# Altium integrated library Res-SMD_V2.IntLib: 2369 symbols (part 2 of 18)
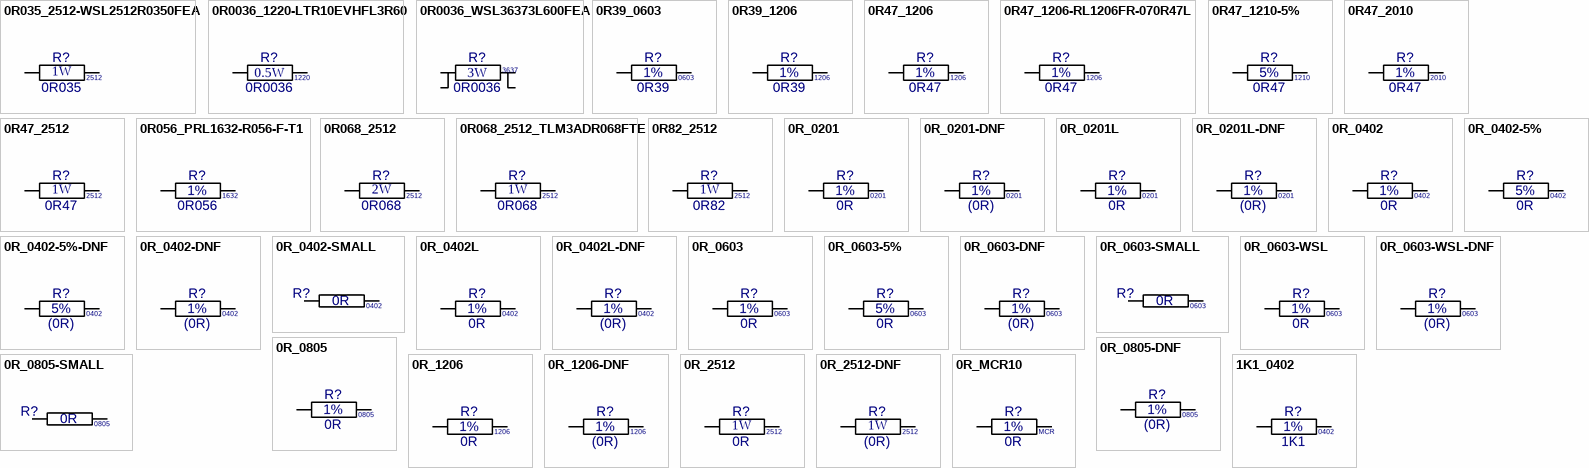
[diagram p60: symbols 0R035_2512-WSL2512R0350FEA to 1K1_0402]

## 0R82_2512
designator R?, comment value 0R82  Watt: 1W  Text1: 2512  (hidden comment: 0R82_R2512_1%)
Resistor Chip SMD; Manufacturer: Various; Part Number: 0R82 2512 1%; Tol: 1%; Package: RESC2512X71N; EDM-PN: *; Text2: *; Reutech PN: *; SAAB PN: *; DCE Part No: *
footprint RESC2512X71N (Chip Resistor, 2512, 2-Leads, Body 6.3x3.2mm, IPC Medium Density)
pins: 1, 2

## 0R_0201
designator R?, comment value 0R  Tol: 1%  Text1: 0201  (hidden comment: 0R_R0201_1%)
Resistor Chip SMD; Manufacturer: Various; Part Number: 0R 0201 1%; Watt: 31mW; Package: RESC0201X33N; EDM-PN: *; Text2: *; Reutech PN: *; SAAB PN: *; DCE Part No: *
footprint RESC0201X33N (Chip Resistor, 0201, 2-Leads, Body 0.6x0.3mm, IPC Medium Density)
pins: 1, 2

## 0R_0201-DNF
designator R?, comment value (0R)  Tol: 1%  Text1: 0201  (hidden comment: 0R_R0201_1%-DNF)
Resistor Chip SMD - Do not Fit; Manufacturer: Various; Part Number: DNF - 0R 0201 1%; Watt: 31mW; Package: RESC0201X33N; EDM-PN: *; Text2: *; Reutech PN: *; SAAB PN: *; DCE Part No: *
footprint RESC0201X33N (Chip Resistor, 0201, 2-Leads, Body 0.6x0.3mm, IPC Medium Density)
pins: 1, 2

## 0R_0201L
designator R?, comment value 0R  Tol: 1%  Text1: 0201  (hidden comment: 0R_R0201_1%)
Resistor Chip SMD; Manufacturer: Various; Part Number: 0R 0201 1%; Watt: 31mW; Package: RESC0201X33L; EDM-PN: *; Text2: *; Reutech PN: *; SAAB PN: *; DCE Part No: *
footprint RESC0201X33L (Chip Resistor, 0201, 2-Leads, Body 0.6x0.3mm, IPC Least Density)
pins: 1, 2

## 0R_0201L-DNF
designator R?, comment value (0R)  Tol: 1%  Text1: 0201  (hidden comment: 0R_R0201_1%-DNF)
Resistor Chip SMD - Do not Fit; Manufacturer: Various; Part Number: DNF - 0R 0201 1%; Watt: 31mW; Package: RESC0201X33L; EDM-PN: *; Text2: *; Reutech PN: *; SAAB PN: *; DCE Part No: *
footprint RESC0201X33L (Chip Resistor, 0201, 2-Leads, Body 0.6x0.3mm, IPC Least Density)
pins: 1, 2

## 0R_0402
designator R?, comment value 0R  Tol: 1%  Text1: 0402  (hidden comment: 0R_R0402_1%)
Resistor Chip SMD; Manufacturer: Various; Part Number: 0R 0402 1%; DCE Part No: 7174; Watt: 63mW; EDM-PN: RES649; Package: RESC0402X40N; Text2: *; Reutech PN: 5905-92-0000; SAAB PN: *
footprint RESC0402X40N (Chip Resistor, 0402, 2-Leads, Body 1.1x0.5mm, IPC Medium Density)
pins: 1, 2

## 0R_0402-5%
designator R?, comment value 0R  Tol: 5%  Text1: 0402  (hidden comment: 0R_R0402_5%)
Resistor Chip SMD; Manufacturer: Various; Part Number: 0R 0402 5%; Watt: 63mW; Package: RESC0402X40N; EDM-PN: *; Text2: *; Reutech PN: *; SAAB PN: *; DCE Part No: *
footprint RESC0402X40N (Chip Resistor, 0402, 2-Leads, Body 1.1x0.5mm, IPC Medium Density)
pins: 1, 2

## 0R_0402-5%-DNF
designator R?, comment value (0R)  Tol: 5%  Text1: 0402  (hidden comment: 0R_R0402_5%)
Resistor Chip SMD - Do not Fit; Manufacturer: Various; Part Number: DNF - 0R 0402 5%; Watt: 63mW; Package: RESC0402X40N; EDM-PN: *; Text2: *; Reutech PN: *; SAAB PN: *; DCE Part No: *
footprint RESC0402X40N (Chip Resistor, 0402, 2-Leads, Body 1.1x0.5mm, IPC Medium Density)
pins: 1, 2

## 0R_0402-DNF
designator R?, comment value (0R)  Tol: 1%  Text1: 0402  (hidden comment: 0R_R0402_1%)
Resistor Chip SMD - Do not Fit; Manufacturer: Various; Part Number: DNF - 0R 0402 1%; Watt: 63mW; EDM-PN: RES649; Package: RESC0402X40N; Text2: *; Reutech PN: 5905-92-0000; SAAB PN: *; DCE Part No: *
footprint RESC0402X40N (Chip Resistor, 0402, 2-Leads, Body 1.1x0.5mm, IPC Medium Density)
pins: 1, 2

## 0R_0402-SMALL
designator R?, comment value 0R  Text1: 0402  (hidden comment: 0R_R0402_1%)
Resistor Chip SMD; Manufacturer: Various; Part Number: 0R 0402 1%; Watt: 63mW; EDM-PN: RES649; Tol: 1%; Package: RESC0402X40N; Text2: *; Reutech PN: 5905-92-0000; SAAB PN: *; DCE Part No: *
footprint RESC0402X40N (Chip Resistor, 0402, 2-Leads, Body 1.1x0.5mm, IPC Medium Density)
pins: 1, 2

## 0R_0402L
designator R?, comment value 0R  Tol: 1%  Text1: 0402  (hidden comment: 0R_R0402_1%)
Resistor Chip SMD; Manufacturer: Various; Part Number: 0R 0402 1%; DCE Part No: 7174; Watt: 63mW; EDM-PN: RES649; Package: RESC0402X40L; Text2: *; Reutech PN: 5905-92-0000; SAAB PN: *
footprint RESC0402X40L (Chip Resistor, 0402, 2-Leads, Body 1.1x0.5mm, IPC High Density)
pins: 1, 2

## 0R_0402L-DNF
designator R?, comment value (0R)  Tol: 1%  Text1: 0402  (hidden comment: 0R_R0402_1%)
Resistor Chip SMD - Do not Fit; Manufacturer: Various; Part Number: DNF - 0R 0402 1%; Watt: 63mW; EDM-PN: RES649; Package: RESC0402X40L; Text2: *; Reutech PN: 5905-92-0000; SAAB PN: *; DCE Part No: *
footprint RESC0402X40L (Chip Resistor, 0402, 2-Leads, Body 1.1x0.5mm, IPC High Density)
pins: 1, 2

## 0R_0603
designator R?, comment value 0R  Tol: 1%  Text1: 0603  (hidden comment: 0R_R0603_1%)
Resistor Chip SMD; Manufacturer: Various; Part Number: 0R 0603 1%; Watt: 100mW; EDM-PN: RES117; Package: RESC0603X60N; Text2: *; Reutech PN: 5905-93-0001; SAAB PN: *; DCE Part No: *
footprint RESC0603X60N (Chip Resistor, 0603, 2-Leads, Body 1.6x0.8mm, IPC Medium Density)
pins: 1, 2

## 0R_0603-5%
designator R?, comment value 0R  Tol: 5%  Text1: 0603  (hidden comment: 0R_R0603_5%)
Resistor Chip SMD; Manufacturer: Various; Part Number: 0R 0603 5%; Watt: 100mW; Package: RESC0603X60N; EDM-PN: *; Text2: *; Reutech PN: 5905-93-0000; SAAB PN: *; DCE Part No: *
footprint RESC0603X60N (Chip Resistor, 0603, 2-Leads, Body 1.6x0.8mm, IPC Medium Density)
pins: 1, 2

## 0R_0603-DNF
designator R?, comment value (0R)  Tol: 1%  Text1: 0603  (hidden comment: 0R_R0603_1%)
Resistor Chip SMD - Do not Fit; Manufacturer: Various; Part Number: DNF - 0R 0603 1%; Watt: 100mW; Package: RESC0603X60N; EDM-PN: *; Text2: *; Reutech PN: 5905-93-0001; SAAB PN: *; DCE Part No: *
footprint RESC0603X60N (Chip Resistor, 0603, 2-Leads, Body 1.6x0.8mm, IPC Medium Density)
pins: 1, 2

## 0R_0603-SMALL
designator R?, comment value 0R  Text1: 0603  (hidden comment: 0R_R0603_1%)
Resistor Chip SMD; Manufacturer: Various; Part Number: 0R 0603 1%; Watt: 100mW; EDM-PN: R117; Tol: 1%; Package: RESC0603X60N; Text2: *; Reutech PN: *; SAAB PN: *; DCE Part No: *
footprint RESC0603X60N (Chip Resistor, 0603, 2-Leads, Body 1.6x0.8mm, IPC Medium Density)
pins: 1, 2

## 0R_0603-WSL
designator R?, comment value 0R  Tol: 1%  Text1: 0603  (hidden comment: WSL060300000ZEA9)
Resistor High Current Jumper; Manufacturer: Vishay; Watt: 100mW; SAAB PN: 1ACF01533AEA; Part Number: WSL060300000ZEA9; Package: RES-WSL0603; EDM-PN: *; Text2: *; Reutech PN: *; DCE Part No: *
footprint RES-WSL0603 (Resistor, WSL0603, 2-Leads, Body 1.6x0.8mm, IPC Medium Density)
pins: 1, 2

## 0R_0603-WSL-DNF
designator R?, comment value (0R)  Tol: 1%  Text1: 0603  (hidden comment: WSL060300000ZEA9)
Resistor High Current Jumper - Do not Fit; Manufacturer: Vishay; Part Number: DNF - WSL060300000ZEA9; Watt: 100mW; SAAB PN: 1ACF01533AEA; Package: RES-WSL0603; EDM-PN: *; Text2: *; Reutech PN: *; DCE Part No: *
footprint RES-WSL0603 (Resistor, WSL0603, 2-Leads, Body 1.6x0.8mm, IPC Medium Density)
pins: 1, 2

## 0R_0805
designator R?, comment value 0R  Tol: 1%  Text1: 0805  (hidden comment: 0R_R0805_1%)
Resistor Chip SMD; Manufacturer: Various; Part Number: 0R 0805 1%; Watt: 125mW; EDM-PN: RES58; SAAB PN: 1ACF00709AEA; Package: RESC0805X65N; Text2: *; Reutech PN: 5905-98-0000; DCE Part No: *
footprint RESC0805X65N (Chip Resistor, 0805, 2-Leads, Body 2.0x1.3mm, IPC Medium Density)
pins: 1, 2

## 0R_0805-DNF
designator R?, comment value (0R)  Tol: 1%  Text1: 0805  (hidden comment: 0R_R0805_1%-DNF)
Resistor Chip SMD - Do not Fit; Manufacturer: Various; Part Number: DNF - 0R 0805 1%; Watt: 125mW; EDM-PN: RES58; SAAB PN: 1ACF00709AEA; Package: RESC0805X65N; Text2: *; Reutech PN: *; DCE Part No: *
footprint RESC0805X65N (Chip Resistor, 0805, 2-Leads, Body 2.0x1.3mm, IPC Medium Density)
pins: 1, 2

## 0R_0805-SMALL
designator R?, comment value 0R  Text1: 0805  (hidden comment: 0R_R0805_1%)
Resistor Chip SMD; Manufacturer: Various; Part Number: 0R 0805 1%; Watt: 125mW; Tol: 1%; Package: RESC0805X65N; EDM-PN: *; Text2: *; Reutech PN: *; SAAB PN: *; DCE Part No: *
footprint RESC0805X65N (Chip Resistor, 0805, 2-Leads, Body 2.0x1.3mm, IPC Medium Density)
pins: 1, 2

## 0R_1206
designator R?, comment value 0R  Tol: 1%  Text1: 1206  (hidden comment: 0R_R1206_1%)
Resistor Chip SMD; Manufacturer: Various; Part Number: 0R 1206 1%; Watt: 250mW; EDM-PN: RES537; Package: RESC1206X71N; Text2: *; Reutech PN: 5905-97-0000; SAAB PN: *; DCE Part No: *
footprint RESC1206X71N (Chip Resistor, 1206, 2-Leads, Body 3.2x1.6mm, IPC Medium Density)
pins: 1, 2

## 0R_1206-DNF
designator R?, comment value (0R)  Tol: 1%  Text1: 1206  (hidden comment: 0R_R1206_1%-DNF)
Resistor Chip SMD - Do not Fit; Manufacturer: Various; Part Number: DNF - 0R 1206 1%; Watt: 250mW; EDM-PN: RES537; Package: RESC1206X71N; Text2: *; Reutech PN: 5905-97-0000; SAAB PN: *; DCE Part No: *
footprint RESC1206X71N (Chip Resistor, 1206, 2-Leads, Body 3.2x1.6mm, IPC Medium Density)
pins: 1, 2

## 0R_2512
designator R?, comment value 0R  Watt: 1W  Text1: 2512  (hidden comment: 0R_R2512_1%)
Resistor Chip SMD; Manufacturer: Various; Part Number: 0R 2512 1%; Tol: 1%; Package: RESC2512X71N; EDM-PN: *; Text2: *; Reutech PN: *; SAAB PN: *; DCE Part No: *
footprint RESC2512X71N (Chip Resistor, 2512, 2-Leads, Body 6.3x3.2mm, IPC Medium Density)
pins: 1, 2

## 0R_2512-DNF
designator R?, comment value (0R)  Watt: 1W  Text1: 2512  (hidden comment: 0R_R2512_1%-DNF)
Resistor Chip SMD - Do not Fit; Manufacturer: Various; Part Number: DNF - 0R 2512 1%; Tol: 1%; Package: RESC2512X71N; EDM-PN: *; Text2: *; Reutech PN: *; SAAB PN: *; DCE Part No: *
footprint RESC2512X71N (Chip Resistor, 2512, 2-Leads, Body 6.3x3.2mm, IPC Medium Density)
pins: 1, 2

## 0R_MCR10
designator R?, comment value 0R  Tol: 1%  Text1: MCR  (hidden comment: 0R_MCR10_1%)
Resistor Compact Thick Film Chip; Manufacturer: Rohm; Part Number: MCR10EZPJ000; Watt: 125mW; Package: RES-MCR10; EDM-PN: *; Text2: *; Reutech PN: *; SAAB PN: *; DCE Part No: *
footprint RES-MCR10 (MCR10 2.0x1.25mm)
pins: 1, 2

## 1K1_0402
designator R?, comment value 1K1  Tol: 1%  Text1: 0402  (hidden comment: 1K1_R0402_1%)
Resistor Chip SMD; Manufacturer: Various; Part Number: 1K1 0402 1%; Watt: 63mW; Package: RESC0402X40N; EDM-PN: *; Text2: *; Reutech PN: *; SAAB PN: *; DCE Part No: *
footprint RESC0402X40N (Chip Resistor, 0402, 2-Leads, Body 1.1x0.5mm, IPC Medium Density)
pins: 1, 2

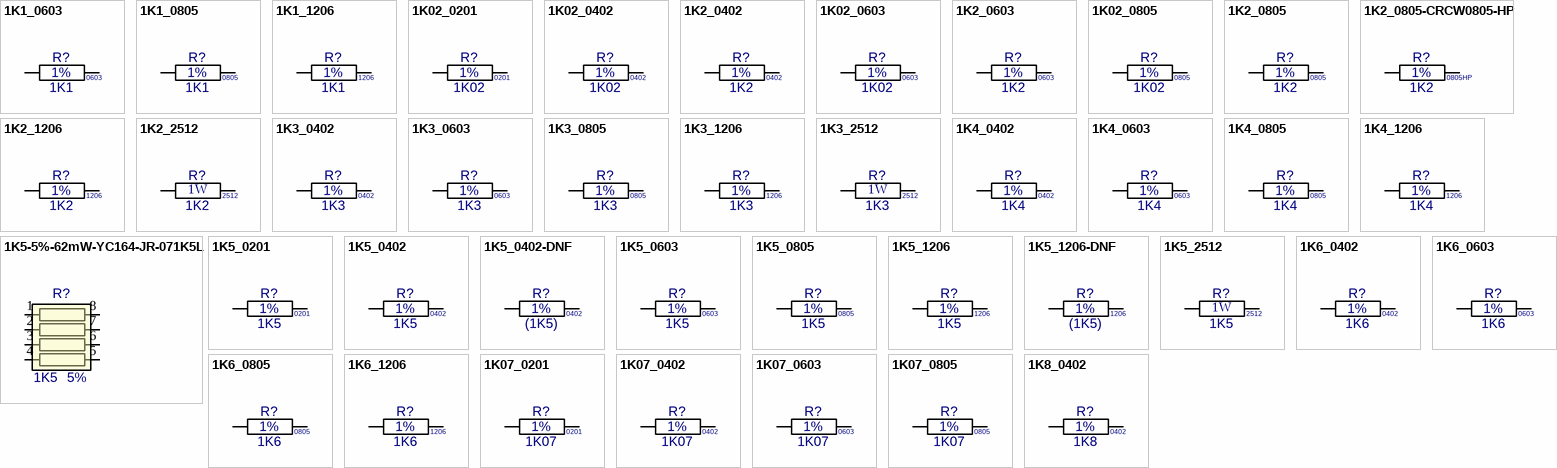
[diagram p4: symbols 1K1_0603 to 1K8_0402]

## 1K1_0603
designator R?, comment value 1K1  Tol: 1%  Text1: 0603  (hidden comment: 1K1_R0603_1%)
Resistor Chip SMD; Manufacturer: Various; Part Number: 1K1 0603 1%; Watt: 100mW; EDM-PN: RES492; Package: RESC0603X60N; Text2: *; Reutech PN: 5905-93-1101; SAAB PN: *; DCE Part No: *
footprint RESC0603X60N (Chip Resistor, 0603, 2-Leads, Body 1.6x0.8mm, IPC Medium Density)
pins: 1, 2

## 1K1_0805
designator R?, comment value 1K1  Tol: 1%  Text1: 0805  (hidden comment: 1K1_R0805_1%)
Resistor Chip SMD; Manufacturer: Various; Part Number: 1K1 0805 1%; Watt: 125mW; Package: RESC0805X65N; EDM-PN: *; Text2: *; Reutech PN: *; SAAB PN: *; DCE Part No: *
footprint RESC0805X65N (Chip Resistor, 0805, 2-Leads, Body 2.0x1.3mm, IPC Medium Density)
pins: 1, 2

## 1K1_1206
designator R?, comment value 1K1  Tol: 1%  Text1: 1206  (hidden comment: 1K1_R1206_1%)
Resistor Chip SMD; Manufacturer: Various; Part Number: 1K1 1206 1%; Watt: 250mW; Package: RESC1206X71N; EDM-PN: *; Text2: *; Reutech PN: 5905-93-1101; SAAB PN: *; DCE Part No: *
footprint RESC1206X71N (Chip Resistor, 1206, 2-Leads, Body 3.2x1.6mm, IPC Medium Density)
pins: 1, 2

## 1K02_0201
designator R?, comment value 1K02  Tol: 1%  Text1: 0201  (hidden comment: 1K02_R0201_1%)
Resistor Chip SMD; Manufacturer: Various; Part Number: 1K02 0201 1%; Watt: 31mW; Package: RESC0201X33N; EDM-PN: *; Text2: *; Reutech PN: *; SAAB PN: *; DCE Part No: *
footprint RESC0201X33N (Chip Resistor, 0201, 2-Leads, Body 0.6x0.3mm, IPC Medium Density)
pins: 1, 2

## 1K02_0402
designator R?, comment value 1K02  Tol: 1%  Text1: 0402  (hidden comment: 1K02_R0402_1%)
Resistor Chip SMD; Manufacturer: Various; Part Number: 1K02 0402 1%; Watt: 63mW; Package: RESC0402X40N; EDM-PN: *; Text2: *; Reutech PN: *; SAAB PN: *; DCE Part No: *
footprint RESC0402X40N (Chip Resistor, 0402, 2-Leads, Body 1.1x0.5mm, IPC Medium Density)
pins: 1, 2

## 1K2_0402
designator R?, comment value 1K2  Tol: 1%  Text1: 0402  (hidden comment: 1K2_R0402_1%)
Resistor Chip SMD; Manufacturer: Various; Part Number: 1K2 0402 1%; Watt: 63mW; Package: RESC0402X40N; EDM-PN: *; Text2: *; Reutech PN: *; SAAB PN: *; DCE Part No: *
footprint RESC0402X40N (Chip Resistor, 0402, 2-Leads, Body 1.1x0.5mm, IPC Medium Density)
pins: 1, 2

## 1K02_0603
designator R?, comment value 1K02  Tol: 1%  Text1: 0603  (hidden comment: 1K02_R0603_1%)
Resistor Chip SMD; Manufacturer: Various; Part Number: 1K02 0603 1%; Watt: 100mW; Package: RESC0603X60N; EDM-PN: *; Text2: *; Reutech PN: *; SAAB PN: *; DCE Part No: *
footprint RESC0603X60N (Chip Resistor, 0603, 2-Leads, Body 1.6x0.8mm, IPC Medium Density)
pins: 1, 2

## 1K2_0603
designator R?, comment value 1K2  Tol: 1%  Text1: 0603  (hidden comment: 1K2_R0603_1%)
Resistor Chip SMD; Manufacturer: Various; Part Number: 1K2 0603 1%; Watt: 100mW; EDM-PN: RES228; Package: RESC0603X60N; Text2: *; Reutech PN: 5905-93-1201; SAAB PN: *; DCE Part No: *
footprint RESC0603X60N (Chip Resistor, 0603, 2-Leads, Body 1.6x0.8mm, IPC Medium Density)
pins: 1, 2

## 1K02_0805
designator R?, comment value 1K02  Tol: 1%  Text1: 0805  (hidden comment: 1K02_R0805_1%)
Resistor Chip SMD; Manufacturer: Various; Part Number: 1K02 0805 1%; Watt: 125mW; Package: RESC0805X65N; EDM-PN: *; Text2: *; Reutech PN: *; SAAB PN: *; DCE Part No: *
footprint RESC0805X65N (Chip Resistor, 0805, 2-Leads, Body 2.0x1.3mm, IPC Medium Density)
pins: 1, 2

## 1K2_0805
designator R?, comment value 1K2  Tol: 1%  Text1: 0805  (hidden comment: 1K2_R0805_1%)
Resistor Chip SMD; Manufacturer: Various; Part Number: 1K2 0805 1%; Watt: 125mW; Package: RESC0805X65N; EDM-PN: *; Text2: *; Reutech PN: *; SAAB PN: *; DCE Part No: *
footprint RESC0805X65N (Chip Resistor, 0805, 2-Leads, Body 2.0x1.3mm, IPC Medium Density)
pins: 1, 2

## 1K2_0805-CRCW0805-HP
designator R?, comment value 1K2  Tol: 1%  Text1: 0805HP  (hidden comment: CRCW08051K20FKEAHP)
Resistor Pulse Withstanding Thick Film; Manufacturer: Vishay; Watt: 500mW; Part Number: CRCW08051K20FKEAHP; Package: CRCW0805-HP; EDM-PN: *; Text2: *; Reutech PN: *; SAAB PN: *; DCE Part No: *
footprint CRCW0805-HP (CRCW0805 HP 2.0x1.3mm, IPC Medium Density)
pins: 1, 2

## 1K2_1206
designator R?, comment value 1K2  Tol: 1%  Text1: 1206  (hidden comment: 1K2_R1206_1%)
Resistor Chip SMD; Manufacturer: Various; Part Number: 1K2 1206 1%; Watt: 250mW; Package: RESC1206X71N; EDM-PN: *; Text2: *; Reutech PN: *; SAAB PN: *; DCE Part No: *
footprint RESC1206X71N (Chip Resistor, 1206, 2-Leads, Body 3.2x1.6mm, IPC Medium Density)
pins: 1, 2

## 1K2_2512
designator R?, comment value 1K2  Watt: 1W  Text1: 2512  (hidden comment: 1K2_R2512_1%)
Resistor Chip SMD; Manufacturer: Various; Part Number: 1K2 2512 1%; Tol: 1%; Package: RESC2512X71N; EDM-PN: *; Text2: *; Reutech PN: *; SAAB PN: *; DCE Part No: *
footprint RESC2512X71N (Chip Resistor, 2512, 2-Leads, Body 6.3x3.2mm, IPC Medium Density)
pins: 1, 2

## 1K3_0402
designator R?, comment value 1K3  Tol: 1%  Text1: 0402  (hidden comment: 1K3_R0402_1%)
Resistor Chip SMD; Manufacturer: Various; Part Number: 1K3 0402 1%; Watt: 63mW; Package: RESC0402X40N; EDM-PN: *; Text2: *; Reutech PN: *; SAAB PN: *; DCE Part No: *
footprint RESC0402X40N (Chip Resistor, 0402, 2-Leads, Body 1.1x0.5mm, IPC Medium Density)
pins: 1, 2

## 1K3_0603
designator R?, comment value 1K3  Tol: 1%  Text1: 0603  (hidden comment: 1K3_R0603_1%)
Resistor Chip SMD; Manufacturer: Various; Part Number: 1K3 0603 1%; Watt: 100mW; Package: RESC0603X60N; EDM-PN: *; Text2: *; Reutech PN: *; SAAB PN: *; DCE Part No: *
footprint RESC0603X60N (Chip Resistor, 0603, 2-Leads, Body 1.6x0.8mm, IPC Medium Density)
pins: 1, 2

## 1K3_0805
designator R?, comment value 1K3  Tol: 1%  Text1: 0805  (hidden comment: 1K3_R0805_1%)
Resistor Chip SMD; Manufacturer: Various; Part Number: 1K3 0805 1%; Watt: 125mW; Package: RESC0805X65N; EDM-PN: *; Text2: *; Reutech PN: *; SAAB PN: *; DCE Part No: *
footprint RESC0805X65N (Chip Resistor, 0805, 2-Leads, Body 2.0x1.3mm, IPC Medium Density)
pins: 1, 2

## 1K3_1206
designator R?, comment value 1K3  Tol: 1%  Text1: 1206  (hidden comment: 1K3_R1206_1%)
Resistor Chip SMD; Manufacturer: Various; Part Number: 1K3 1206 1%; Watt: 250mW; Package: RESC1206X71N; EDM-PN: *; Text2: *; Reutech PN: *; SAAB PN: *; DCE Part No: *
footprint RESC1206X71N (Chip Resistor, 1206, 2-Leads, Body 3.2x1.6mm, IPC Medium Density)
pins: 1, 2

## 1K3_2512
designator R?, comment value 1K3  Watt: 1W  Text1: 2512  (hidden comment: 1K3_R2512_1%)
Resistor Chip SMD; Manufacturer: Various; Part Number: 1K3 2512 1%; Tol: 1%; Package: RESC2512X71N; EDM-PN: *; Text2: *; Reutech PN: *; SAAB PN: *; DCE Part No: *
footprint RESC2512X71N (Chip Resistor, 2512, 2-Leads, Body 6.3x3.2mm, IPC Medium Density)
pins: 1, 2

## 1K4_0402
designator R?, comment value 1K4  Tol: 1%  Text1: 0402  (hidden comment: 1K4_R0402_1%)
Resistor Chip SMD; Manufacturer: Various; Part Number: 1K4 0402 1%; Watt: 63mW; Package: RESC0402X40N; EDM-PN: *; Text2: *; Reutech PN: *; SAAB PN: *; DCE Part No: *
footprint RESC0402X40N (Chip Resistor, 0402, 2-Leads, Body 1.1x0.5mm, IPC Medium Density)
pins: 1, 2

## 1K4_0603
designator R?, comment value 1K4  Tol: 1%  Text1: 0603  (hidden comment: 1K4_R0603_1%)
Resistor Chip SMD; Manufacturer: Various; Part Number: 1K4 0603 1%; Watt: 100mW; Package: RESC0603X60N; EDM-PN: *; Text2: *; Reutech PN: *; SAAB PN: *; DCE Part No: *
footprint RESC0603X60N (Chip Resistor, 0603, 2-Leads, Body 1.6x0.8mm, IPC Medium Density)
pins: 1, 2

## 1K4_0805
designator R?, comment value 1K4  Tol: 1%  Text1: 0805  (hidden comment: 1K4_R0805_1%)
Resistor Chip SMD; Manufacturer: Various; Part Number: 1K4 0805 1%; Watt: 125mW; Package: RESC0805X65N; EDM-PN: *; Text2: *; Reutech PN: *; SAAB PN: *; DCE Part No: *
footprint RESC0805X65N (Chip Resistor, 0805, 2-Leads, Body 2.0x1.3mm, IPC Medium Density)
pins: 1, 2

## 1K4_1206
designator R?, comment value 1K4  Tol: 1%  Text1: 1206  (hidden comment: 1K4_R1206_1%)
Resistor Chip SMD; Manufacturer: Various; Part Number: 1K4 1206 1%; Watt: 250mW; Package: RESC1206X71N; EDM-PN: *; Text2: *; Reutech PN: *; SAAB PN: *; DCE Part No: *
footprint RESC1206X71N (Chip Resistor, 1206, 2-Leads, Body 3.2x1.6mm, IPC Medium Density)
pins: 1, 2

## 1K5-5%-62mW-YC164-JR-071K5L
designator R?, comment value 1K5  Tol: 5%  (hidden comment: YC164-JR-071K5L)
Resistor Chip Array; Manufacturer: Yageo; Watt: 62mW; Part Number: YC164-JR-071K5L; Package: YC164; EDM-PN: *; Text2: *; Text1: *; Reutech PN: *; SAAB PN: *; DCE Part No: *
footprint YC164 (Res Network 1.6x3.2mm)
pins: 1, 2, 3, 4, 5, 6, 7, 8

## 1K5_0201
designator R?, comment value 1K5  Tol: 1%  Text1: 0201  (hidden comment: 1K5_R0201_1%)
Resistor Chip SMD; Manufacturer: Various; Part Number: 1K5 0201 1%; Watt: 31mW; Package: RESC0201X33N; EDM-PN: *; Text2: *; Reutech PN: *; SAAB PN: *; DCE Part No: *
footprint RESC0201X33N (Chip Resistor, 0201, 2-Leads, Body 0.6x0.3mm, IPC Medium Density)
pins: 1, 2

## 1K5_0402
designator R?, comment value 1K5  Tol: 1%  Text1: 0402  (hidden comment: 1K5_R0402_1%)
Resistor Chip SMD; Manufacturer: Various; Part Number: 1K5 0402 1%; Watt: 63mW; EDM-PN: RES885; Package: RESC0402X40N; Text2: *; Reutech PN: 5905-92-1501; SAAB PN: *; DCE Part No: *
footprint RESC0402X40N (Chip Resistor, 0402, 2-Leads, Body 1.1x0.5mm, IPC Medium Density)
pins: 1, 2

## 1K5_0402-DNF
designator R?, comment value (1K5)  Tol: 1%  Text1: 0402  (hidden comment: 1K5_R0402_1%-DNF)
Resistor Chip SMD - Do not Fit; Manufacturer: Various; Part Number: DNF - 1K5 0402 1%; Watt: 63mW; Package: RESC0402X40N; EDM-PN: *; Text2: *; Reutech PN: *; SAAB PN: *; DCE Part No: *
footprint RESC0402X40N (Chip Resistor, 0402, 2-Leads, Body 1.1x0.5mm, IPC Medium Density)
pins: 1, 2

## 1K5_0603
designator R?, comment value 1K5  Tol: 1%  Text1: 0603  (hidden comment: 1K5_R0603_1%)
Resistor Chip SMD; Manufacturer: Various; Part Number: 1K5 0603 1%; Watt: 100mW; EDM-PN: RES229; Package: RESC0603X60N; Text2: *; Reutech PN: 5905-93-1501; SAAB PN: *; DCE Part No: *
footprint RESC0603X60N (Chip Resistor, 0603, 2-Leads, Body 1.6x0.8mm, IPC Medium Density)
pins: 1, 2

## 1K5_0805
designator R?, comment value 1K5  Tol: 1%  Text1: 0805  (hidden comment: 1K5_R0805_1%)
Resistor Chip SMD; Manufacturer: Various; Part Number: 1K5 0805 1%; Watt: 125mW; EDM-PN: RES13; SAAB PN: 1ACF00190AEA; Package: RESC0805X65N; Text2: *; Reutech PN: *; DCE Part No: *
footprint RESC0805X65N (Chip Resistor, 0805, 2-Leads, Body 2.0x1.3mm, IPC Medium Density)
pins: 1, 2

## 1K5_1206
designator R?, comment value 1K5  Tol: 1%  Text1: 1206  (hidden comment: 1K5_R1206_1%)
Resistor Chip SMD; Manufacturer: Various; Part Number: 1K5 1206 1%; Watt: 250mW; Package: RESC1206X71N; EDM-PN: *; Text2: *; Reutech PN: 5905-97-5101; SAAB PN: *; DCE Part No: *
footprint RESC1206X71N (Chip Resistor, 1206, 2-Leads, Body 3.2x1.6mm, IPC Medium Density)
pins: 1, 2

## 1K5_1206-DNF
designator R?, comment value (1K5)  Tol: 1%  Text1: 1206  (hidden comment: 1K5_R1206_1%-DNF)
Resistor Chip SMD - Do not Fit; Manufacturer: Various; Part Number: DNF - 1K5 1206 1%; Watt: 250mW; Package: RESC1206X71N; EDM-PN: *; Text2: *; Reutech PN: 5905-97-5101; SAAB PN: *; DCE Part No: *
footprint RESC1206X71N (Chip Resistor, 1206, 2-Leads, Body 3.2x1.6mm, IPC Medium Density)
pins: 1, 2

## 1K5_2512
designator R?, comment value 1K5  Watt: 1W  Text1: 2512  (hidden comment: 1K5_R2512_1%)
Resistor Chip SMD; Manufacturer: Various; Part Number: 1K5 2512 1%; Tol: 1%; Package: RESC2512X71N; EDM-PN: *; Text2: *; Reutech PN: *; SAAB PN: *; DCE Part No: *
footprint RESC2512X71N (Chip Resistor, 2512, 2-Leads, Body 6.3x3.2mm, IPC Medium Density)
pins: 1, 2

## 1K6_0402
designator R?, comment value 1K6  Tol: 1%  Text1: 0402  (hidden comment: 1K6_R0402_1%)
Resistor Chip SMD; Manufacturer: Various; Part Number: 1K6 0402 1%; Watt: 63mW; Package: RESC0402X40N; EDM-PN: *; Text2: *; Reutech PN: *; SAAB PN: *; DCE Part No: *
footprint RESC0402X40N (Chip Resistor, 0402, 2-Leads, Body 1.1x0.5mm, IPC Medium Density)
pins: 1, 2

## 1K6_0603
designator R?, comment value 1K6  Tol: 1%  Text1: 0603  (hidden comment: 1K6_R0603_1%)
Resistor Chip SMD; Manufacturer: Various; Part Number: 1K6 0603 1%; Watt: 100mW; Package: RESC0603X60N; EDM-PN: *; Text2: *; Reutech PN: *; SAAB PN: *; DCE Part No: *
footprint RESC0603X60N (Chip Resistor, 0603, 2-Leads, Body 1.6x0.8mm, IPC Medium Density)
pins: 1, 2

## 1K6_0805
designator R?, comment value 1K6  Tol: 1%  Text1: 0805  (hidden comment: 1K6_R0805_1%)
Resistor Chip SMD; Manufacturer: Various; Part Number: 1K6 0805 1%; Watt: 125mW; Package: RESC0805X65N; EDM-PN: *; Text2: *; Reutech PN: *; SAAB PN: *; DCE Part No: *
footprint RESC0805X65N (Chip Resistor, 0805, 2-Leads, Body 2.0x1.3mm, IPC Medium Density)
pins: 1, 2

## 1K6_1206
designator R?, comment value 1K6  Tol: 1%  Text1: 1206  (hidden comment: 1K6_R1206_1%)
Resistor Chip SMD; Manufacturer: Various; Part Number: 1K6 1206 1%; Watt: 250mW; Package: RESC1206X71N; EDM-PN: *; Text2: *; Reutech PN: *; SAAB PN: *; DCE Part No: *
footprint RESC1206X71N (Chip Resistor, 1206, 2-Leads, Body 3.2x1.6mm, IPC Medium Density)
pins: 1, 2

## 1K07_0201
designator R?, comment value 1K07  Tol: 1%  Text1: 0201  (hidden comment: 1K07_R0201_1%)
Resistor Chip SMD; Manufacturer: Various; Part Number: 1K07 0201 1%; Watt: 31mW; Package: RESC0201X33N; EDM-PN: *; Text2: *; Reutech PN: *; SAAB PN: *; DCE Part No: *
footprint RESC0201X33N (Chip Resistor, 0201, 2-Leads, Body 0.6x0.3mm, IPC Medium Density)
pins: 1, 2

## 1K07_0402
designator R?, comment value 1K07  Tol: 1%  Text1: 0402  (hidden comment: 1K07_R0402_1%)
Resistor Chip SMD; Manufacturer: Various; Part Number: 1K07 0402 1%; Watt: 63mW; Package: RESC0402X40N; EDM-PN: *; Text2: *; Reutech PN: *; SAAB PN: *; DCE Part No: *
footprint RESC0402X40N (Chip Resistor, 0402, 2-Leads, Body 1.1x0.5mm, IPC Medium Density)
pins: 1, 2

## 1K07_0603
designator R?, comment value 1K07  Tol: 1%  Text1: 0603  (hidden comment: 1K07_R0603_1%)
Resistor Chip SMD; Manufacturer: Various; Part Number: 1K07 0603 1%; Watt: 100mW; Package: RESC0603X60N; EDM-PN: *; Text2: *; Reutech PN: *; SAAB PN: *; DCE Part No: *
footprint RESC0603X60N (Chip Resistor, 0603, 2-Leads, Body 1.6x0.8mm, IPC Medium Density)
pins: 1, 2

## 1K07_0805
designator R?, comment value 1K07  Tol: 1%  Text1: 0805  (hidden comment: 1K07_R0805_1%)
Resistor Chip SMD; Manufacturer: Various; Part Number: 1K07 0805 1%; Watt: 125mW; Package: RESC0805X65N; EDM-PN: *; Text2: *; Reutech PN: *; SAAB PN: *; DCE Part No: *
footprint RESC0805X65N (Chip Resistor, 0805, 2-Leads, Body 2.0x1.3mm, IPC Medium Density)
pins: 1, 2

## 1K8_0402
designator R?, comment value 1K8  Tol: 1%  Text1: 0402  (hidden comment: 1K8_R0402_1%)
Resistor Chip SMD; Manufacturer: Various; Part Number: 1K8 0402 1%; Watt: 63mW; EDM-PN: RES876; Package: RESC0402X40N; Text2: *; Reutech PN: *; SAAB PN: *; DCE Part No: *
footprint RESC0402X40N (Chip Resistor, 0402, 2-Leads, Body 1.1x0.5mm, IPC Medium Density)
pins: 1, 2

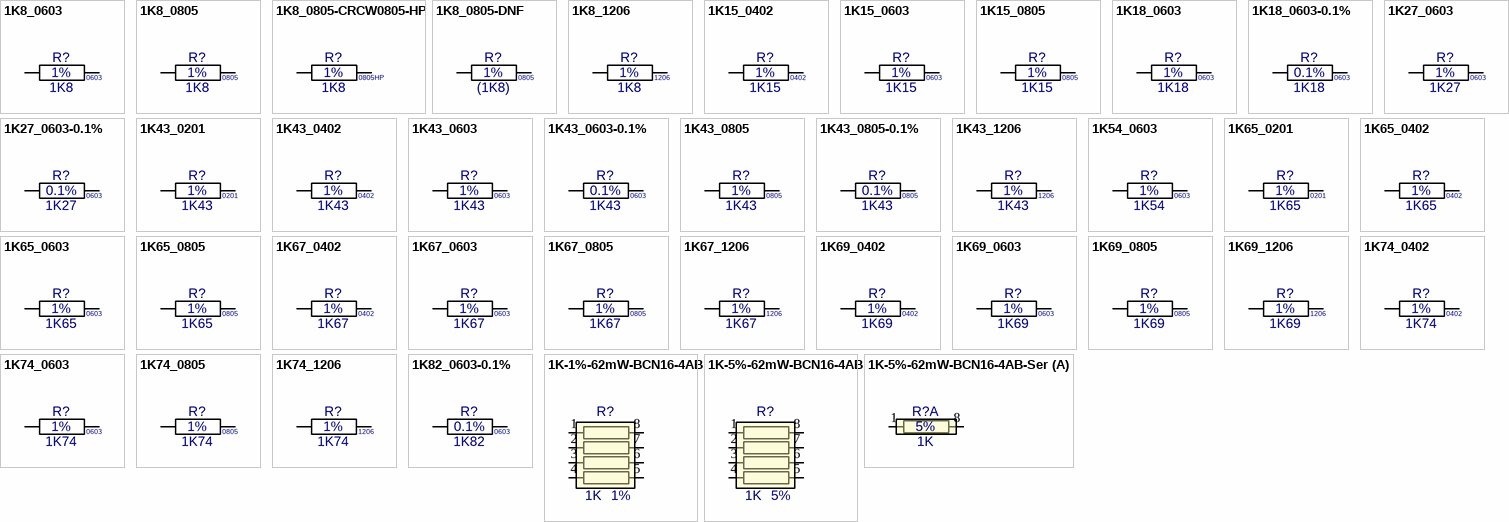
[diagram p5: symbols 1K8_0603 to 1K-5%-62mW-BCN16-4AB-Ser]

## 1K8_0603
designator R?, comment value 1K8  Tol: 1%  Text1: 0603  (hidden comment: 1K8_R0603_1%)
Resistor Chip SMD; Manufacturer: Various; Part Number: 1K8 0603 1%; Watt: 100mW; Package: RESC0603X60N; EDM-PN: *; Text2: *; Reutech PN: *; SAAB PN: *; DCE Part No: *
footprint RESC0603X60N (Chip Resistor, 0603, 2-Leads, Body 1.6x0.8mm, IPC Medium Density)
pins: 1, 2

## 1K8_0805
designator R?, comment value 1K8  Tol: 1%  Text1: 0805  (hidden comment: 1K8_R0805_1%)
Resistor Chip SMD; Manufacturer: Various; Part Number: 1K8 0805 1%; Watt: 125mW; EDM-PN: RES62; Package: RESC0805X65N; Text2: *; Reutech PN: *; SAAB PN: *; DCE Part No: *
footprint RESC0805X65N (Chip Resistor, 0805, 2-Leads, Body 2.0x1.3mm, IPC Medium Density)
pins: 1, 2

## 1K8_0805-CRCW0805-HP
designator R?, comment value 1K8  Tol: 1%  Text1: 0805HP  (hidden comment: CRCW08051K80FKEAHP)
Resistor Pulse Withstanding Thick Film; Manufacturer: Vishay; Watt: 500mW; Part Number: CRCW08051K80FKEAHP; Package: CRCW0805-HP; EDM-PN: *; Text2: *; Reutech PN: *; SAAB PN: *; DCE Part No: *
footprint CRCW0805-HP (CRCW0805 HP 2.0x1.3mm, IPC Medium Density)
pins: 1, 2

## 1K8_0805-DNF
designator R?, comment value (1K8)  Tol: 1%  Text1: 0805  (hidden comment: 1K8_R0805_1%-DNF)
Resistor Chip SMD - Do not Fit; Manufacturer: Various; Part Number: DNF 1K8 0805 1%; Watt: 125mW; EDM-PN: RES62; Package: RESC0805X65N; Text2: *; Reutech PN: *; SAAB PN: *; DCE Part No: *
footprint RESC0805X65N (Chip Resistor, 0805, 2-Leads, Body 2.0x1.3mm, IPC Medium Density)
pins: 1, 2

## 1K8_1206
designator R?, comment value 1K8  Tol: 1%  Text1: 1206  (hidden comment: 1K8_R1206_1%)
Resistor Chip SMD; Manufacturer: Various; Part Number: 1K8 1206 1%; Watt: 250mW; Package: RESC1206X71N; EDM-PN: *; Text2: *; Reutech PN: *; SAAB PN: *; DCE Part No: *
footprint RESC1206X71N (Chip Resistor, 1206, 2-Leads, Body 3.2x1.6mm, IPC Medium Density)
pins: 1, 2

## 1K15_0402
designator R?, comment value 1K15  Tol: 1%  Text1: 0402  (hidden comment: 1K15_R0402_1%)
Resistor Chip SMD; Manufacturer: Various; Part Number: 1K15 0402 1%; Watt: 63mW; Package: RESC0402X40N; EDM-PN: *; Text2: *; Reutech PN: *; SAAB PN: *; DCE Part No: *
footprint RESC0402X40N (Chip Resistor, 0402, 2-Leads, Body 1.1x0.5mm, IPC Medium Density)
pins: 1, 2

## 1K15_0603
designator R?, comment value 1K15  Tol: 1%  Text1: 0603  (hidden comment: 1K15_R0603_1%)
Resistor Chip SMD; Manufacturer: Various; Part Number: 1K15 0603 1%; Watt: 100mW; Package: RESC0603X60N; EDM-PN: *; Text2: *; Reutech PN: *; SAAB PN: *; DCE Part No: *
footprint RESC0603X60N (Chip Resistor, 0603, 2-Leads, Body 1.6x0.8mm, IPC Medium Density)
pins: 1, 2

## 1K15_0805
designator R?, comment value 1K15  Tol: 1%  Text1: 0805  (hidden comment: 1K15_R0805_1%)
Resistor Chip SMD; Manufacturer: Various; Part Number: 1K15 0805 1%; Watt: 125mW; Package: RESC0805X65N; EDM-PN: *; Text2: *; Reutech PN: *; SAAB PN: *; DCE Part No: *
footprint RESC0805X65N (Chip Resistor, 0805, 2-Leads, Body 2.0x1.3mm, IPC Medium Density)
pins: 1, 2

## 1K18_0603
designator R?, comment value 1K18  Tol: 1%  Text1: 0603  (hidden comment: 1K18_R0603_1%)
Resistor Chip SMD; Manufacturer: Various; Part Number: 1K18 0603 1%; Watt: 100mW; Package: RESC0603X60N; EDM-PN: *; Text2: *; Reutech PN: *; SAAB PN: *; DCE Part No: *
footprint RESC0603X60N (Chip Resistor, 0603, 2-Leads, Body 1.6x0.8mm, IPC Medium Density)
pins: 1, 2

## 1K18_0603-0.1%
designator R?, comment value 1K18  Tol: 0.1%  Text1: 0603  (hidden comment: 1K18_R0603_0.1%)
Resistor Chip SMD; Manufacturer: Various; Part Number: 1K18 0603 0.1%; Watt: 100mW; Reutech PN: 5905-93-; Package: RESC0603X60N; EDM-PN: *; Text2: *; SAAB PN: *; DCE Part No: *
footprint RESC0603X60N (Chip Resistor, 0603, 2-Leads, Body 1.6x0.8mm, IPC Medium Density)
pins: 1, 2

## 1K27_0603
designator R?, comment value 1K27  Tol: 1%  Text1: 0603  (hidden comment: 1K27_R0603_1%)
Resistor Chip SMD; Manufacturer: Various; Part Number: 1K27 0603 1%; Watt: 100mW; Package: RESC0603X60N; EDM-PN: *; Text2: *; Reutech PN: *; SAAB PN: *; DCE Part No: *
footprint RESC0603X60N (Chip Resistor, 0603, 2-Leads, Body 1.6x0.8mm, IPC Medium Density)
pins: 1, 2

## 1K27_0603-0.1%
designator R?, comment value 1K27  Tol: 0.1%  Text1: 0603  (hidden comment: 1K27_R0603_0.1%)
Resistor Chip SMD; Manufacturer: Various; Part Number: 1K27 0603 0.1%; Watt: 100mW; Reutech PN: 5905-93-; Package: RESC0603X60N; EDM-PN: *; Text2: *; SAAB PN: *; DCE Part No: *
footprint RESC0603X60N (Chip Resistor, 0603, 2-Leads, Body 1.6x0.8mm, IPC Medium Density)
pins: 1, 2

## 1K43_0201
designator R?, comment value 1K43  Tol: 1%  Text1: 0201  (hidden comment: 1K43_R0201_1%)
Resistor Chip SMD; Manufacturer: Various; Part Number: 1K43 0201 1%; Watt: 31mW; Package: RESC0201X33N; EDM-PN: *; Text2: *; Reutech PN: *; SAAB PN: *; DCE Part No: *
footprint RESC0201X33N (Chip Resistor, 0201, 2-Leads, Body 0.6x0.3mm, IPC Medium Density)
pins: 1, 2

## 1K43_0402
designator R?, comment value 1K43  Tol: 1%  Text1: 0402  (hidden comment: 1K43_R0402_1%)
Resistor Chip SMD; Manufacturer: Various; Part Number: 1K43 0402 1%; Watt: 63mW; Reutech PN: 5905-92-; Package: RESC0402X40N; EDM-PN: *; Text2: *; SAAB PN: *; DCE Part No: *
footprint RESC0402X40N (Chip Resistor, 0402, 2-Leads, Body 1.1x0.5mm, IPC Medium Density)
pins: 1, 2

## 1K43_0603
designator R?, comment value 1K43  Tol: 1%  Text1: 0603  (hidden comment: 1K43_R0603_1%)
Resistor Chip SMD; Manufacturer: Various; Part Number: 1K43 0603 1%; Watt: 100mW; Reutech PN: 5905-93-; Package: RESC0603X60N; EDM-PN: *; Text2: *; SAAB PN: *; DCE Part No: *
footprint RESC0603X60N (Chip Resistor, 0603, 2-Leads, Body 1.6x0.8mm, IPC Medium Density)
pins: 1, 2

## 1K43_0603-0.1%
designator R?, comment value 1K43  Tol: 0.1%  Text1: 0603  (hidden comment: 1K43_R0603_0.1%)
Resistor Chip SMD; Manufacturer: Various; Part Number: 1K43 0603 0.1%; Watt: 100mW; Reutech PN: 5905-93-; Package: RESC0603X60N; EDM-PN: *; Text2: *; SAAB PN: *; DCE Part No: *
footprint RESC0603X60N (Chip Resistor, 0603, 2-Leads, Body 1.6x0.8mm, IPC Medium Density)
pins: 1, 2

## 1K43_0805
designator R?, comment value 1K43  Tol: 1%  Text1: 0805  (hidden comment: 1K43_R0805_1%)
Resistor Chip SMD; Manufacturer: Various; Part Number: 1K43 0805 1%; Watt: 125mW; Package: RESC0805X65N; EDM-PN: *; Text2: *; Reutech PN: *; SAAB PN: *; DCE Part No: *
footprint RESC0805X65N (Chip Resistor, 0805, 2-Leads, Body 2.0x1.3mm, IPC Medium Density)
pins: 1, 2

## 1K43_0805-0.1%
designator R?, comment value 1K43  Tol: 0.1%  Text1: 0805  (hidden comment: 1K43_R0805_0.1%)
Resistor Chip SMD; Manufacturer: Various; Part Number: 1K43 0805 0.1%; Watt: 125mW; Package: RESC0805X65N; EDM-PN: *; Text2: *; Reutech PN: *; SAAB PN: *; DCE Part No: *
footprint RESC0805X65N (Chip Resistor, 0805, 2-Leads, Body 2.0x1.3mm, IPC Medium Density)
pins: 1, 2

## 1K43_1206
designator R?, comment value 1K43  Tol: 1%  Text1: 1206  (hidden comment: 1K43_R1206_1%)
Resistor Chip SMD; Manufacturer: Various; Part Number: 1K43 1206 1%; Watt: 250mW; Package: RESC1206X71N; EDM-PN: *; Text2: *; Reutech PN: *; SAAB PN: *; DCE Part No: *
footprint RESC1206X71N (Chip Resistor, 1206, 2-Leads, Body 3.2x1.6mm, IPC Medium Density)
pins: 1, 2

## 1K54_0603
designator R?, comment value 1K54  Tol: 1%  Text1: 0603  (hidden comment: 1K54_R0603_1%)
Resistor Chip SMD; Manufacturer: Various; Part Number: 1K54 0603 1%; Watt: 100mW; Package: RESC0603X60N; EDM-PN: *; Text2: *; Reutech PN: *; SAAB PN: *; DCE Part No: *
footprint RESC0603X60N (Chip Resistor, 0603, 2-Leads, Body 1.6x0.8mm, IPC Medium Density)
pins: 1, 2

## 1K65_0201
designator R?, comment value 1K65  Tol: 1%  Text1: 0201  (hidden comment: 1K65_R0201_1%)
Resistor Chip SMD; Manufacturer: Various; Part Number: 1K65 0201 1%; Watt: 31mW; Package: RESC0201X33N; EDM-PN: *; Text2: *; Reutech PN: *; SAAB PN: *; DCE Part No: *
footprint RESC0201X33N (Chip Resistor, 0201, 2-Leads, Body 0.6x0.3mm, IPC Medium Density)
pins: 1, 2

## 1K65_0402
designator R?, comment value 1K65  Tol: 1%  Text1: 0402  (hidden comment: 1K65_R0402_1%)
Resistor Chip SMD; Manufacturer: Various; Part Number: 1K65 0402 1%; Watt: 63mW; Package: RESC0402X40N; EDM-PN: *; Text2: *; Reutech PN: *; SAAB PN: *; DCE Part No: *
footprint RESC0402X40N (Chip Resistor, 0402, 2-Leads, Body 1.1x0.5mm, IPC Medium Density)
pins: 1, 2

## 1K65_0603
designator R?, comment value 1K65  Tol: 1%  Text1: 0603  (hidden comment: 1K65_R0603_1%)
Resistor Chip SMD; Manufacturer: Various; Part Number: 1K65 0603 1%; Watt: 100mW; Package: RESC0603X60N; EDM-PN: *; Text2: *; Reutech PN: *; SAAB PN: *; DCE Part No: *
footprint RESC0603X60N (Chip Resistor, 0603, 2-Leads, Body 1.6x0.8mm, IPC Medium Density)
pins: 1, 2

## 1K65_0805
designator R?, comment value 1K65  Tol: 1%  Text1: 0805  (hidden comment: 1K65_R0805_1%)
Resistor Chip SMD; Manufacturer: Various; Part Number: 1K65 0805 1%; Watt: 125mW; Package: RESC0805X65N; EDM-PN: *; Text2: *; Reutech PN: *; SAAB PN: *; DCE Part No: *
footprint RESC0805X65N (Chip Resistor, 0805, 2-Leads, Body 2.0x1.3mm, IPC Medium Density)
pins: 1, 2

## 1K67_0402
designator R?, comment value 1K67  Tol: 1%  Text1: 0402  (hidden comment: 1K67_R0402_1%)
Resistor Chip SMD; Manufacturer: Various; Part Number: 1K67 0402 1%; Watt: 63mW; Package: RESC0402X40N; EDM-PN: *; Text2: *; Reutech PN: *; SAAB PN: *; DCE Part No: *
footprint RESC0402X40N (Chip Resistor, 0402, 2-Leads, Body 1.1x0.5mm, IPC Medium Density)
pins: 1, 2

## 1K67_0603
designator R?, comment value 1K67  Tol: 1%  Text1: 0603  (hidden comment: 1K67_R0603_1%)
Resistor Chip SMD; Manufacturer: Various; Part Number: 1K67 0603 1%; Watt: 100mW; Package: RESC0603X60N; EDM-PN: *; Text2: *; Reutech PN: *; SAAB PN: *; DCE Part No: *
footprint RESC0603X60N (Chip Resistor, 0603, 2-Leads, Body 1.6x0.8mm, IPC Medium Density)
pins: 1, 2

## 1K67_0805
designator R?, comment value 1K67  Tol: 1%  Text1: 0805  (hidden comment: 1K67_R0805_1%)
Resistor Chip SMD; Manufacturer: Various; Part Number: 1K67 0805 1%; Watt: 125mW; Package: RESC0805X65N; EDM-PN: *; Text2: *; Reutech PN: *; SAAB PN: *; DCE Part No: *
footprint RESC0805X65N (Chip Resistor, 0805, 2-Leads, Body 2.0x1.3mm, IPC Medium Density)
pins: 1, 2

## 1K67_1206
designator R?, comment value 1K67  Tol: 1%  Text1: 1206  (hidden comment: 1K67_R1206_1%)
Resistor Chip SMD; Manufacturer: Various; Part Number: 1K67 1206 1%; Watt: 250mW; Package: RESC1206X71N; EDM-PN: *; Text2: *; Reutech PN: *; SAAB PN: *; DCE Part No: *
footprint RESC1206X71N (Chip Resistor, 1206, 2-Leads, Body 3.2x1.6mm, IPC Medium Density)
pins: 1, 2

## 1K69_0402
designator R?, comment value 1K69  Tol: 1%  Text1: 0402  (hidden comment: 1K69_R0402_1%)
Resistor Chip SMD; Manufacturer: Various; Part Number: 1K69 0402 1%; Watt: 63mW; Package: RESC0402X40N; EDM-PN: *; Text2: *; Reutech PN: *; SAAB PN: *; DCE Part No: *
footprint RESC0402X40N (Chip Resistor, 0402, 2-Leads, Body 1.1x0.5mm, IPC Medium Density)
pins: 1, 2

## 1K69_0603
designator R?, comment value 1K69  Tol: 1%  Text1: 0603  (hidden comment: 1K69_R0603_1%)
Resistor Chip SMD; Manufacturer: Various; Part Number: 1K69 0603 1%; Watt: 100mW; Package: RESC0603X60N; EDM-PN: *; Text2: *; Reutech PN: *; SAAB PN: *; DCE Part No: *
footprint RESC0603X60N (Chip Resistor, 0603, 2-Leads, Body 1.6x0.8mm, IPC Medium Density)
pins: 1, 2

## 1K69_0805
designator R?, comment value 1K69  Tol: 1%  Text1: 0805  (hidden comment: 1K69_R0805_1%)
Resistor Chip SMD; Manufacturer: Various; Part Number: 1K69 0805 1%; Watt: 125mW; Package: RESC0805X65N; EDM-PN: *; Text2: *; Reutech PN: *; SAAB PN: *; DCE Part No: *
footprint RESC0805X65N (Chip Resistor, 0805, 2-Leads, Body 2.0x1.3mm, IPC Medium Density)
pins: 1, 2

## 1K69_1206
designator R?, comment value 1K69  Tol: 1%  Text1: 1206  (hidden comment: 1K69_R1206_1%)
Resistor Chip SMD; Manufacturer: Various; Part Number: 1K69 1206 1%; Watt: 250mW; Package: RESC1206X71N; EDM-PN: *; Text2: *; Reutech PN: *; SAAB PN: *; DCE Part No: *
footprint RESC1206X71N (Chip Resistor, 1206, 2-Leads, Body 3.2x1.6mm, IPC Medium Density)
pins: 1, 2

## 1K74_0402
designator R?, comment value 1K74  Tol: 1%  Text1: 0402  (hidden comment: 1K74_R0402_1%)
Resistor Chip SMD; Manufacturer: Various; Part Number: 1K74 0402 1%; Watt: 63mW; EDM-PN: RES1575; Package: RESC0402X40N; Text2: *; Reutech PN: *; SAAB PN: *; DCE Part No: *
footprint RESC0402X40N (Chip Resistor, 0402, 2-Leads, Body 1.1x0.5mm, IPC Medium Density)
pins: 1, 2

## 1K74_0603
designator R?, comment value 1K74  Tol: 1%  Text1: 0603  (hidden comment: 1K74_R0603_1%)
Resistor Chip SMD; Manufacturer: Various; Part Number: 1K74 0603 1%; Watt: 100mW; Package: RESC0603X60N; EDM-PN: *; Text2: *; Reutech PN: *; SAAB PN: *; DCE Part No: *
footprint RESC0603X60N (Chip Resistor, 0603, 2-Leads, Body 1.6x0.8mm, IPC Medium Density)
pins: 1, 2

## 1K74_0805
designator R?, comment value 1K74  Tol: 1%  Text1: 0805  (hidden comment: 1K74_R0805_1%)
Resistor Chip SMD; Manufacturer: Various; Part Number: 1K74 0805 1%; Watt: 125mW; Package: RESC0805X65N; EDM-PN: *; Text2: *; Reutech PN: *; SAAB PN: *; DCE Part No: *
footprint RESC0805X65N (Chip Resistor, 0805, 2-Leads, Body 2.0x1.3mm, IPC Medium Density)
pins: 1, 2

## 1K74_1206
designator R?, comment value 1K74  Tol: 1%  Text1: 1206  (hidden comment: 1K74_R1206_1%)
Resistor Chip SMD; Manufacturer: Various; Part Number: 1K74 1206 1%; Watt: 250mW; Package: RESC1206X71N; EDM-PN: *; Text2: *; Reutech PN: *; SAAB PN: *; DCE Part No: *
footprint RESC1206X71N (Chip Resistor, 1206, 2-Leads, Body 3.2x1.6mm, IPC Medium Density)
pins: 1, 2

## 1K82_0603-0.1%
designator R?, comment value 1K82  Tol: 0.1%  Text1: 0603  (hidden comment: 1K82_R0603_0.1%)
Resistor Chip SMD; Manufacturer: Various; Part Number: 1K82 0603 0.1%; Watt: 100mW; Package: RESC0603X60N; EDM-PN: *; Text2: *; Reutech PN: *; SAAB PN: *; DCE Part No: *
footprint RESC0603X60N (Chip Resistor, 0603, 2-Leads, Body 1.6x0.8mm, IPC Medium Density)
pins: 1, 2

## 1K-1%-62mW-BCN16-4AB
designator R?, comment value 1K  Tol: 1%  (hidden comment: 1K-1%-62mW-BCN16-4AB-H)
Resistor Chip Array; Manufacturer: Bi Tech; Part Number: BCN164ABI-102F; Watt: 62mW; Package: BCN16-4AB; EDM-PN: *; Text2: *; Text1: *; Reutech PN: *; SAAB PN: *; DCE Part No: *
footprint BCN16-4AB (BCN 16 4 AB 1.6x3.2mm)
pins: 1, 2, 3, 4, 5, 6, 7, 8

## 1K-5%-62mW-BCN16-4AB
designator R?, comment value 1K  Tol: 5%  (hidden comment: 1K-5%-62mW-BCN16-4AB-H)
Resistor Chip Array; Manufacturer: Bi Tech; Part Number: BCN164ABI-102J; Watt: 62mW; Package: BCN16-4AB; EDM-PN: *; Text2: *; Text1: *; Reutech PN: *; SAAB PN: *; DCE Part No: *
footprint BCN16-4AB (BCN 16 4 AB 1.6x3.2mm)
pins: 1, 2, 3, 4, 5, 6, 7, 8

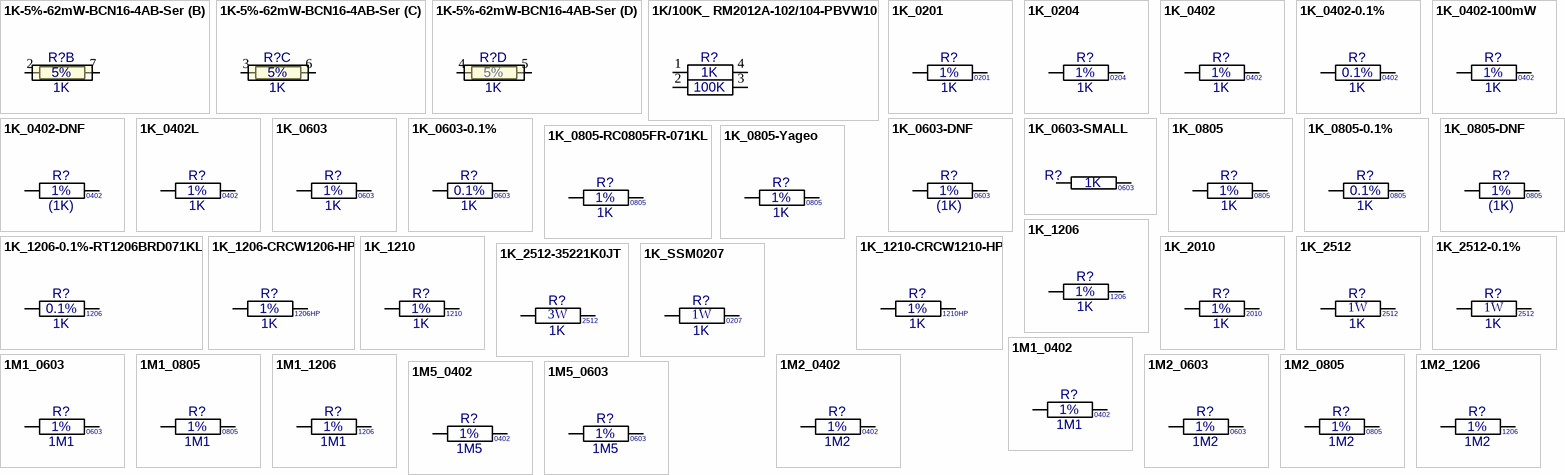
[diagram p6: symbols 1K-5%-62mW-BCN16-4AB-Ser to 1M5_0603]

## 1K-5%-62mW-BCN16-4AB-Ser
designator R?, comment value 1K  Tol: 5%  (hidden comment: 1K-5%-62mW-BCN16-4AB-H)
Resistor Chip Array; Manufacturer: Bi Tech; Part Number: BCN164ABI-102J; Watt: 62mW; Package: BCN16-4AB; EDM-PN: *; Text2: *; Text1: *; Reutech PN: *; SAAB PN: *; DCE Part No: *
footprint BCN16-4AB (BCN 16 4 AB 1.6x3.2mm)
part A pins: 1, 8
part B pins: 2, 7
part C pins: 3, 6
part D pins: 4, 5

## 1K/100K_ RM2012A-102/104-PBVW10
designator R?, comment Text2: 100K  Text1: 1K  (hidden comment: RM2012A-102/104-PBVW10)
Resistor Chip Array 25ppm; Manufacturer: Susumu; Watt: 50mW; Tol: 0.1%; Value: 1K/100K; Part Number: RM2012A-102/104-PBVW10; Package: RESC0201X33N; EDM-PN: *; Reutech PN: *; SAAB PN: *; DCE Part No: *
footprint RES-RM2012A (RM2012A 2.0x1.25mm)
pins: 1, 2, 3, 4

## 1K_0201
designator R?, comment value 1K  Tol: 1%  Text1: 0201  (hidden comment: 1K_R0201_1%)
Resistor Chip SMD; Manufacturer: Various; Part Number: 1K 0201 1%; Watt: 31mW; Package: RESC0201X33N; EDM-PN: *; Text2: *; Reutech PN: *; SAAB PN: *; DCE Part No: *
footprint RESC0201X33N (Chip Resistor, 0201, 2-Leads, Body 0.6x0.3mm, IPC Medium Density)
pins: 1, 2

## 1K_0204
designator R?, comment value 1K  Tol: 1%  Text1: 0204  (hidden comment: SMM02040C1001FB300)
Resistor Melf SMD; Manufacturer: Vishay; Watt: 250mW; Part Number: SMM02040C1001FB300; Package: RES-SMM0204; EDM-PN: *; Text2: *; Reutech PN: *; SAAB PN: *; DCE Part No: *
footprint RES-SMM0204 (Resistor SMM0204 3.6x1.4mm)
pins: 1, 2

## 1K_0402
designator R?, comment value 1K  Tol: 1%  Text1: 0402  (hidden comment: 1K_R0402_1%)
Resistor Chip SMD; Manufacturer: Various; Part Number: 1K 0402 1%; DCE Part No: 7147; Watt: 63mW; EDM-PN: RES638; SAAB PN: 1ACF01013AEA; Package: RESC0402X40N; Text2: *; Reutech PN: *
footprint RESC0402X40N (Chip Resistor, 0402, 2-Leads, Body 1.1x0.5mm, IPC Medium Density)
pins: 1, 2

## 1K_0402-0.1%
designator R?, comment value 1K  Tol: 0.1%  Text1: 0402  (hidden comment: 1K_R0402_0.1%)
Resistor Chip SMD; Manufacturer: Various; Part Number: 1K 0402 0.1%; Watt: 63mW; Package: RESC0402X40N; EDM-PN: *; Text2: *; Reutech PN: *; SAAB PN: *; DCE Part No: *
footprint RESC0402X40N (Chip Resistor, 0402, 2-Leads, Body 1.1x0.5mm, IPC Medium Density)
pins: 1, 2

## 1K_0402-100mW
designator R?, comment value 1K  Tol: 1%  Text1: 0402  (hidden comment: 1K_R0402_1% 100mW)
Resistor Chip SMD; Manufacturer: Various; Part Number: 1K 0402 1% 100mW; Watt: 63mW; SAAB PN: 1ACF01013AEA; Package: RESC0402X40N; EDM-PN: *; Text2: *; Reutech PN: *; DCE Part No: *
footprint RESC0402X40N (Chip Resistor, 0402, 2-Leads, Body 1.1x0.5mm, IPC Medium Density)
pins: 1, 2

## 1K_0402-DNF
designator R?, comment value (1K)  Tol: 1%  Text1: 0402  (hidden comment: 1K_R0402_1%-DNF)
Resistor Chip SMD - Do not Fit; Manufacturer: Various; Part Number: DNF - 1K 0402 1%; DCE Part No: 7147; Watt: 63mW; EDM-PN: RES638; Package: RESC0402X40N; Text2: *; Reutech PN: *; SAAB PN: *
footprint RESC0402X40N (Chip Resistor, 0402, 2-Leads, Body 1.1x0.5mm, IPC Medium Density)
pins: 1, 2

## 1K_0402L
designator R?, comment value 1K  Tol: 1%  Text1: 0402  (hidden comment: 1K_R0402_1%)
Resistor Chip SMD; Manufacturer: Various; Part Number: 1K 0402 1%; DCE Part No: 7147; Watt: 63mW; EDM-PN: RES638; SAAB PN: 1ACF01013AEA; Package: RESC0402X40L; Text2: *; Reutech PN: *
footprint RESC0402X40L (Chip Resistor, 0402, 2-Leads, Body 1.1x0.5mm, IPC High Density)
pins: 1, 2

## 1K_0603
designator R?, comment value 1K  Tol: 1%  Text1: 0603  (hidden comment: 1K_R0603_1%)
Resistor Chip SMD; Manufacturer: Various; Part Number: 1K 0603 1%; Watt: 100mW; EDM-PN: RES122; Package: RESC0603X60N; Text2: *; Reutech PN: 5905-93-1001; SAAB PN: *; DCE Part No: *
footprint RESC0603X60N (Chip Resistor, 0603, 2-Leads, Body 1.6x0.8mm, IPC Medium Density)
pins: 1, 2

## 1K_0603-0.1%
designator R?, comment value 1K  Tol: 0.1%  Text1: 0603  (hidden comment: 1K_R0603_0.1%)
Resistor Chip SMD; Manufacturer: Various; Part Number: 1K 0603 0.1%; Watt: 100mW; Package: RESC0603X60N; EDM-PN: *; Text2: *; Reutech PN: *; SAAB PN: *; DCE Part No: *
footprint RESC0603X60N (Chip Resistor, 0603, 2-Leads, Body 1.6x0.8mm, IPC Medium Density)
pins: 1, 2

## 1K_0603-DNF
designator R?, comment value (1K)  Tol: 1%  Text1: 0603  (hidden comment: 1K_R0603_1%)
Resistor Chip SMD - Do not Fit; Manufacturer: Various; Part Number: DNF - 1K 0603 1%; Watt: 100mW; Package: RESC0603X60N; EDM-PN: *; Text2: *; Reutech PN: 5905-93-1001; SAAB PN: *; DCE Part No: *
footprint RESC0603X60N (Chip Resistor, 0603, 2-Leads, Body 1.6x0.8mm, IPC Medium Density)
pins: 1, 2

## 1K_0603-SMALL
designator R?, comment value 1K  Text1: 0603  (hidden comment: 1K_R0603_1%)
Resistor Chip SMD; Manufacturer: Various; Part Number: 1K 0603 1%; Watt: 100mW; EDM-PN: RES181; Tol: 1%; Package: RESC0603X60N; Text2: *; Reutech PN: *; SAAB PN: *; DCE Part No: *
footprint RESC0603X60N (Chip Resistor, 0603, 2-Leads, Body 1.6x0.8mm, IPC Medium Density)
pins: 1, 2

## 1K_0805
designator R?, comment value 1K  Tol: 1%  Text1: 0805  (hidden comment: 1K_R0805_1%)
Resistor Chip SMD; Manufacturer: Various; Part Number: 1K 0805 1%; Watt: 125mW; EDM-PN: RES14; SAAB PN: 1ACF00188AEA; Package: RESC0805X65N; Text2: *; Reutech PN: *; DCE Part No: *
footprint RESC0805X65N (Chip Resistor, 0805, 2-Leads, Body 2.0x1.3mm, IPC Medium Density)
pins: 1, 2

## 1K_0805-0.1%
designator R?, comment value 1K  Tol: 0.1%  Text1: 0805  (hidden comment: 1K_R0805_0.1%)
Resistor Chip SMD; Manufacturer: Various; Part Number: 1K 0805 0.1%; Watt: 125mW; Package: RESC0805X65N; EDM-PN: *; Text2: *; Reutech PN: *; SAAB PN: *; DCE Part No: *
footprint RESC0805X65N (Chip Resistor, 0805, 2-Leads, Body 2.0x1.3mm, IPC Medium Density)
pins: 1, 2

## 1K_0805-DNF
designator R?, comment value (1K)  Tol: 1%  Text1: 0805  (hidden comment: 1K[NEQ]_R0805_1%)
Resistor Chip SMD - Do not Fit; Manufacturer: Various; Part Number: DNF - 1K 0805 1%; Watt: 125mW; EDM-PN: RES14; SAAB PN: 1ACF00188AEA; Package: RESC0805X65N; Text2: *; Reutech PN: *; DCE Part No: *
footprint RESC0805X65N (Chip Resistor, 0805, 2-Leads, Body 2.0x1.3mm, IPC Medium Density)
pins: 1, 2

## 1K_0805-RC0805FR-071KL
designator R?, comment value 1K  Tol: 1%  Text1: 0805  (hidden comment: RC0805FR-071KL)
Resistor Thick Film; Manufacturer: Yageo; Watt: 125mW; Part Number: RC0805FR-071KL; Package: RESC0805X65N; EDM-PN: *; Text2: *; Reutech PN: *; SAAB PN: *; DCE Part No: *
footprint RESC0805X65N (Chip Resistor, 0805, 2-Leads, Body 2.0x1.3mm, IPC Medium Density)
pins: 1, 2

## 1K_0805-Yageo
designator R?, comment value 1K  Tol: 1%  Text1: 0805  (hidden comment: 1K_R0805_1%-Yageo)
Resistor Chip SMD; Manufacturer: Yageo; Part Number: RC0805FR-071KL; Watt: 125mW; Package: RESC0805X65N; EDM-PN: *; Text2: *; Reutech PN: *; SAAB PN: *; DCE Part No: *
footprint RESC0805X65N (Chip Resistor, 0805, 2-Leads, Body 2.0x1.3mm, IPC Medium Density)
pins: 1, 2

## 1K_1206
designator R?, comment value 1K  Tol: 1%  Text1: 1206  (hidden comment: 1K_R1206_1%)
Resistor Chip SMD; Manufacturer: Various; Part Number: 1K 1206 1%; Watt: 250mW; Package: RESC1206X71N; EDM-PN: *; Text2: *; Reutech PN: 5905-97-1001; SAAB PN: *; DCE Part No: *
footprint RESC1206X71N (Chip Resistor, 1206, 2-Leads, Body 3.2x1.6mm, IPC Medium Density)
pins: 1, 2

## 1K_1206-0.1%-RT1206BRD071KL
designator R?, comment value 1K  Tol: 0.1%  Text1: 1206  (hidden comment: RT1206BRD071KL)
Resistor Chip SMD; Manufacturer: Yageo; Watt: 250mW; Part Number: RT1206BRD071KL; Package: RESC1206X71N; EDM-PN: *; Text2: *; Reutech PN: *; SAAB PN: *; DCE Part No: *
footprint RESC1206X71N (Chip Resistor, 1206, 2-Leads, Body 3.2x1.6mm, IPC Medium Density)
pins: 1, 2

## 1K_1206-CRCW1206-HP
designator R?, comment value 1K  Tol: 1%  Text1: 1206HP  (hidden comment: 1K_R1206_1%-CRCW1206-HP)
Resistor Chip Pulse Proof High Power Thick Film; Manufacturer: Vishay; Part Number: CRCW12061K00FKEAHP; Watt: 500mW; Package: CRCW1206-HP; EDM-PN: *; Text2: *; Reutech PN: *; SAAB PN: *; DCE Part No: *
footprint CRCW1206-HP (CCRCW1206-HP 3.2x1.6mm, IPC Medium Density)
pins: 1, 2

## 1K_1210
designator R?, comment value 1K  Tol: 1%  Text1: 1210  (hidden comment: 1K_R1210_1%)
Resistor Chip SMD; Manufacturer: Various; Part Number: 1K 1210 1%; Watt: 500mW; Package: RESC1210X71N; EDM-PN: *; Text2: *; Reutech PN: *; SAAB PN: *; DCE Part No: *
footprint RESC1210X71N (Chip Resistor, 1210, 2-Leads, Body 3.2x2.5mm, IPC Medium Density)
pins: 1, 2

## 1K_1210-CRCW1210-HP
designator R?, comment value 1K  Tol: 1%  Text1: 1210HP  (hidden comment: 1K_R1210_1%-CRCW1210-HP)
Resistor Chip Pulse Proof High Power Thick Film; Manufacturer: Vishay; Part Number: CRCW12101K00FKEAHP; Watt: 750mW; Package: CRCW1210-HP; EDM-PN: *; Text2: *; Reutech PN: *; SAAB PN: *; DCE Part No: *
footprint CRCW1210-HP (CRCW1210-HP 3.2x2.5mm, IPC Medium Density)
pins: 1, 2

## 1K_2010
designator R?, comment value 1K  Tol: 1%  Text1: 2010  (hidden comment: 1K_R2010_1%)
Resistor Chip SMD; Manufacturer: Various; Part Number: 1K 2010 1%; Watt: 0.75W; Package: RESC2010X71N; EDM-PN: *; Text2: *; Reutech PN: 5905-95-1001; SAAB PN: *; DCE Part No: *
footprint RESC2010X71N (Chip Resistor, 2010, 2-Leads, Body 5.0x2.5mm, IPC Medium Density)
pins: 1, 2

## 1K_2512
designator R?, comment value 1K  Watt: 1W  Text1: 2512  (hidden comment: 1K_R2512_1%)
Resistor Chip SMD; Manufacturer: Various; Part Number: 1K 2512 1%; Tol: 1%; Package: RESC2512X71N; EDM-PN: *; Text2: *; Reutech PN: *; SAAB PN: *; DCE Part No: *
footprint RESC2512X71N (Chip Resistor, 2512, 2-Leads, Body 6.3x3.2mm, IPC Medium Density)
pins: 1, 2

## 1K_2512-0.1%
designator R?, comment value 1K  Watt: 1W  Text1: 2512  (hidden comment: 1K_R2512_0.1%)
Resistor Chip SMD; Manufacturer: Various; Part Number: 1K 2512 0.1%; Tol: 0.1%; Package: RESC2512X71N; EDM-PN: *; Text2: *; Reutech PN: *; SAAB PN: *; DCE Part No: *
footprint RESC2512X71N (Chip Resistor, 2512, 2-Leads, Body 6.3x3.2mm, IPC Medium Density)
pins: 1, 2